# Altium integrated library TGIS.IntLib: 7 symbols
Pins are listed as number, name and electrical type; pins without a type are passive.

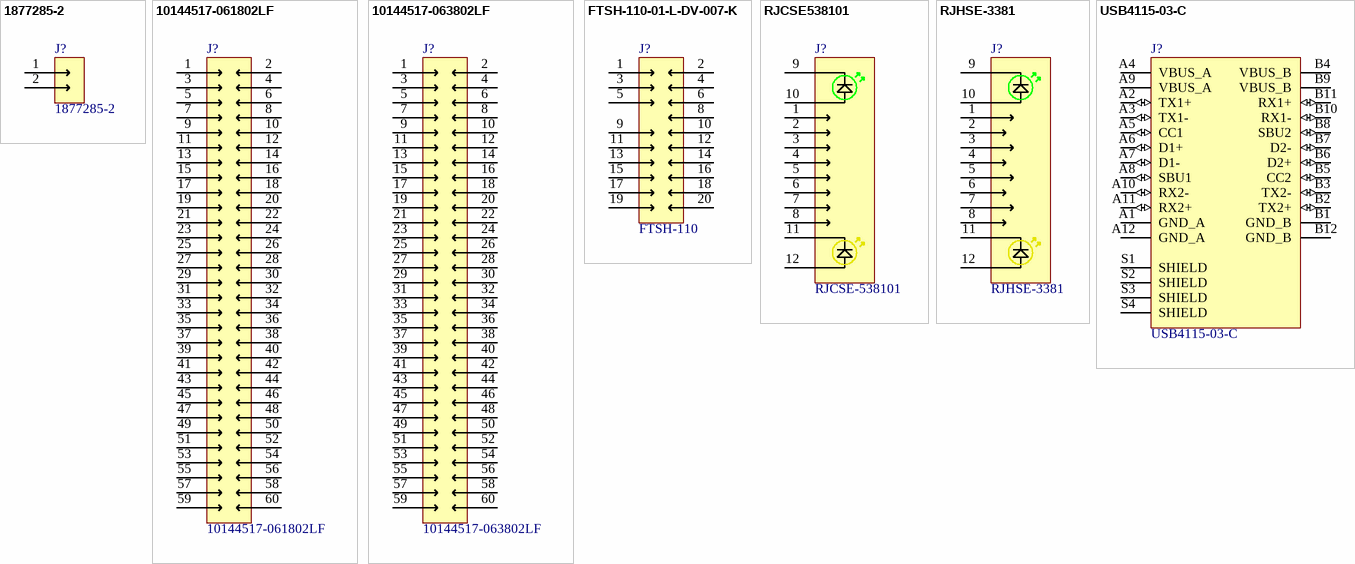
[diagram p0: symbols 1877285-2 to USB4115-03-C]

## 1877285-2
designator J?
Supplier 1: Digi-Key; Supplier Part Number 1: A99845-ND
footprint TE_1877285-2
pins: 1, 2

## 10144517-061802LF
designator J?
CONN RCPT 60POS SMD GOLD; Supplier 1: Digi-Key; Supplier Part Number 1: 609-5433-1-ND
footprint AMPHENOL_10144517-061802LF
pins: 1, 2, 3, 4, 5, 6, 7, 8, 9, 10, 11, 12, 13, 14, 15, 16, 17, 18, 19, 20, 21, 22, 23, 24, 25, 26, 27, 28, 29, 30, 31, 32, 33, 34, 35, 36, 37, 38, 39, 40, 41, 42, 43, 44, 45, 46, 47, 48, 49, 50, 51, 52, 53, 54, 55, 56, 57, 58, 59, 60

## 10144517-063802LF
designator J?
CONN RCPT 60POS SMD GOLD; Supplier 1: Digi-Key; Supplier Part Number 1: 609-5435-1-ND
footprint AMPHENOL_10144517-063802LF
pins: 1, 2, 3, 4, 5, 6, 7, 8, 9, 10, 11, 12, 13, 14, 15, 16, 17, 18, 19, 20, 21, 22, 23, 24, 25, 26, 27, 28, 29, 30, 31, 32, 33, 34, 35, 36, 37, 38, 39, 40, 41, 42, 43, 44, 45, 46, 47, 48, 49, 50, 51, 52, 53, 54, 55, 56, 57, 58, 59, 60

## FTSH-110-01-L-DV-007-K
designator J?, comment FTSH-110
Connector Header Surface Mount 20 position 0.050" (1.27mm); Supplier 1: Digi-Key; Supplier Part Number 1: SAM9456-ND
footprint SAMTEC_FTSH-110-01-L-DV-007
pins: 1, 2, 3, 4, 5, 6, 8, 9, 10, 11, 12, 13, 14, 15, 16, 17, 18, 19, 20

## RJCSE538101
designator J?, comment RJCSE-538101
Jack Modular Connector 8p8c (RJ45, Ethernet) Vertical Shielded, EMI Finger; Supplier 1: Digi-Key; Supplier Part Number 1: 664-RJCSE538101CT-ND
footprint AMPHENOL_RJCSE538101
pins: 1, 2, 3, 4, 5, 6, 7, 8, 9, 10, 11, 12

## RJHSE-3381
designator J?
Jack Modular Connector 8p8c (RJ45, Ethernet) Vertical Shielded; Supplier 1: Digi-Key; Supplier Part Number 1: RJHSE-3381-ND
footprint AMPHENOL_RJHSE3381
pins: 1, 2, 3, 4, 5, 6, 7, 8, 9 G-, 10 G+, 11 Y-, 12 Y+

## USB4115-03-C
designator J?
USB-C (USB TYPE-C) USB 3.2 Gen 2 (USB 3.1 Gen 2, Superspeed + (USB 3.1)) Receptacle Connector 24 Position Surface Mount, Through Hole; Supplier 1: Future Electronics; Supplier Part Number 1: 4134645
footprint GCT_USB4115-03-C_REVB2
pins: A1 GND_A (power), A2 TX1+ (io), A3 TX1- (io), A4 VBUS_A (power), A5 CC1 (io), A6 D1+ (io), A7 D1- (io), A8 SBU1 (io), A9 VBUS_A (power), A10 RX2- (io), A11 RX2+ (io), A12 GND_A (power), B1 GND_B (power), B2 TX2+ (io), B3 TX2- (io), B4 VBUS_B (power), B5 CC2 (io), B6 D2+ (io), B7 D2- (io), B8 SBU2 (io), B9 VBUS_B (power), B10 RX1- (io), B11 RX1+ (io), B12 GND_B (power), S1 SHIELD, S2 SHIELD, S3 SHIELD, S4 SHIELD